# Altium schematic symbol library Chips.SchLib: 3 symbols
Pins are listed as number, name and electrical type; pins without a type are passive.

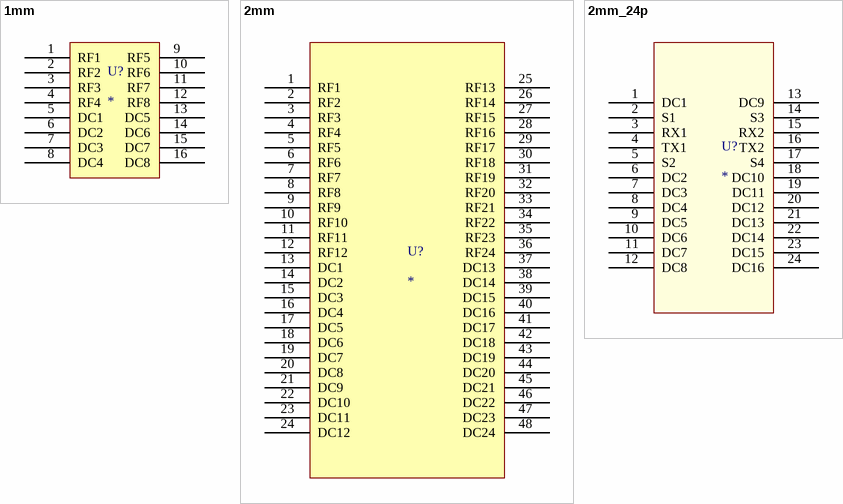
[diagram p0: symbols 1mm to 2mm_24p]

## 1mm
designator U?
footprint 1mm
pins: 1 RF1, 2 RF2, 3 RF3, 4 RF4, 5 DC1, 6 DC2, 7 DC3, 8 DC4, 9 RF5, 10 RF6, 11 RF7, 12 RF8, 13 DC5, 14 DC6, 15 DC7, 16 DC8

## 2mm
designator U?
footprint 2mm
pins: 1 RF1, 2 RF2, 3 RF3, 4 RF4, 5 RF5, 6 RF6, 7 RF7, 8 RF8, 9 RF9, 10 RF10, 11 RF11, 12 RF12, 13 DC1, 14 DC2, 15 DC3, 16 DC4, 17 DC5, 18 DC6, 19 DC7, 20 DC8, 21 DC9, 22 DC10, 23 DC11, 24 DC12, 25 RF13, 26 RF14, 27 RF15, 28 RF16, 29 RF17, 30 RF18, 31 RF19, 32 RF20, 33 RF21, 34 RF22, 35 RF23, 36 RF24, 37 DC13, 38 DC14, 39 DC15, 40 DC16, 41 DC17, 42 DC18, 43 DC19, 44 DC20, 45 DC21, 46 DC22, 47 DC23, 48 DC24

## 2mm_24p
designator U?
footprint 2MM_8AC_16DC
pins: 1 DC1, 2 S1, 3 RX1, 4 TX1, 5 S2, 6 DC2, 7 DC3, 8 DC4, 9 DC5, 10 DC6, 11 DC7, 12 DC8, 13 DC9, 14 S3, 15 RX2, 16 TX2, 17 S4, 18 DC10, 19 DC11, 20 DC12, 21 DC13, 22 DC14, 23 DC15, 24 DC16